# Altium footprint library Terminal_Blocks_Rising Case Clamp PCB_2.54mm.PcbLib: 3 footprints
Each footprint in its own frame and in the unit in brackets; x right, y up, seen from the top. Pads: shape width x height; smd on the part's side, far side on the other; paste and mask are expansions set on the pad; w line width, h text height; cw(c..) or ccw(c..) is an arc to the next point about the centre after c.
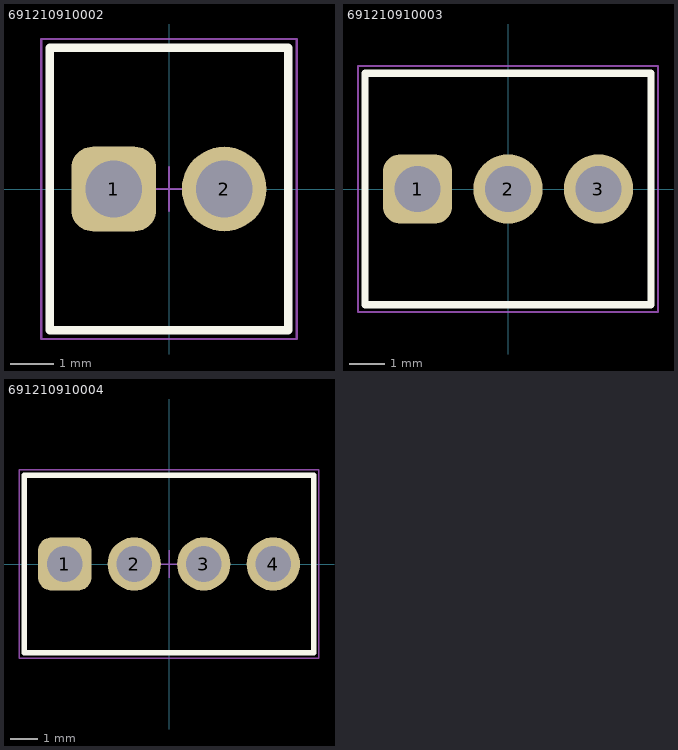
[diagram p0: the footprints below, top view; thin cyan lines are the x and y axes]

## 691210910002 [mm] "2,54mm - modular - green - Horizontal wire entry - Cage clamp - 0,8mm2 wires - 02p"
height 8.5
pads (2):
  rrect50% 1.95x1.95 hole 1.3: 1(-1.27,0)
  round 1.95 hole 1.3: 2(1.27,0)
Top Overlay:
  lines w0.2: -2.74,-3.25 2.74,-3.25 2.74,3.25 -2.74,3.25 -2.74,-3.25
Top Designator:
  text ".Designator" at -7.498,-0.5 h1.5
Top Component Outline:
  lines w0.1: -2.74,-3.25 -2.74,3.25 2.74,3.25 2.74,-3.25 -2.74,-3.25
Top 3D Body:
  lines w0.1: -2.74,-3.25 2.74,-3.25 2.74,3.25 -2.74,3.25 -2.74,-3.25
Top Courtyard:
  lines w0.05: -2.94,-3.45 -2.94,3.45 2.94,3.45 2.94,-3.45 -2.94,-3.45
Top Component Center:
  lines w0.05: -0.5,0 0.5,0 ; 0,-0.5 0,0.5
3D body "691210910002.stp": height 8.55, standoff -3.45, extent -2.74,-3.25 2.74,3.25

## 691210910003 [mm] "2,54mm - modular - green - Horizontal wire entry - Cage clamp - 0,8mm2 wires - 03p"
height 8.5
pads (3):
  rrect50% 1.95x1.95 hole 1.3: 1(-2.54,0)
  round 1.95 hole 1.3: 2(0,0) 3(2.54,0)
Top Overlay:
  lines w0.2: -4.01,-3.25 -4.01,3.25 4.01,3.25 4.01,-3.25 -4.01,-3.25
Top Designator:
  text ".Designator" at -7.498,-0.5 h1.5
Top Component Outline:
  lines w0.1: -4.01,-3.25 4.01,-3.25 4.01,3.25 -4.01,3.25 -4.01,-3.25
Top 3D Body:
  lines w0.1: -4.01,-3.25 -4.01,3.25 4.01,3.25 4.01,-3.25 -4.01,-3.25
Top Courtyard:
  lines w0.05: -4.21,-3.45 4.21,-3.45 4.21,3.45 -4.21,3.45 -4.21,-3.45
Top Component Center:
  lines w0.05: -0.5,0 0.5,0 ; 0,-0.5 0,0.5
3D body "691210910003.stp": height 8.55, standoff -3.45, extent -4.01,-3.25 4.01,3.25

## 691210910004 [mm] "2,54mm - modular - green - Horizontal wire entry - Cage clamp - 0,8mm2 wires - 04p"
height 8.5
pads (4):
  rrect50% 1.95x1.95 hole 1.3: 1(-3.81,0)
  round 1.95 hole 1.3: 2(-1.27,0) 3(1.27,0) 4(3.81,0)
Top Overlay:
  lines w0.2: -5.28,-3.25 -5.28,3.25 5.28,3.25 5.28,-3.25 -5.28,-3.25
Top Designator:
  text ".Designator" at -7.498,-0.5 h1.5
Top Component Outline:
  lines w0.1: -5.28,-3.25 5.28,-3.25 5.28,3.25 -5.28,3.25 -5.28,-3.25
Top 3D Body:
  lines w0.1: -5.28,-3.25 -5.28,3.25 5.28,3.25 5.28,-3.25 -5.28,-3.25
Top Courtyard:
  lines w0.05: -5.48,-3.45 5.48,-3.45 5.48,3.45 -5.48,3.45 -5.48,-3.45
Top Component Center:
  lines w0.05: -0.5,0 0.5,0 ; 0,-0.5 0,0.5
3D body "691210910004.stp": height 8.55, standoff -3.45, extent -5.28,-3.25 5.28,3.25